# Altium schematic symbol library Aluminum_Electrolytic_Cap.SchLib: 62 symbols (part 1 of 2)
Pins are listed as number, name and electrical type; pins without a type are passive.

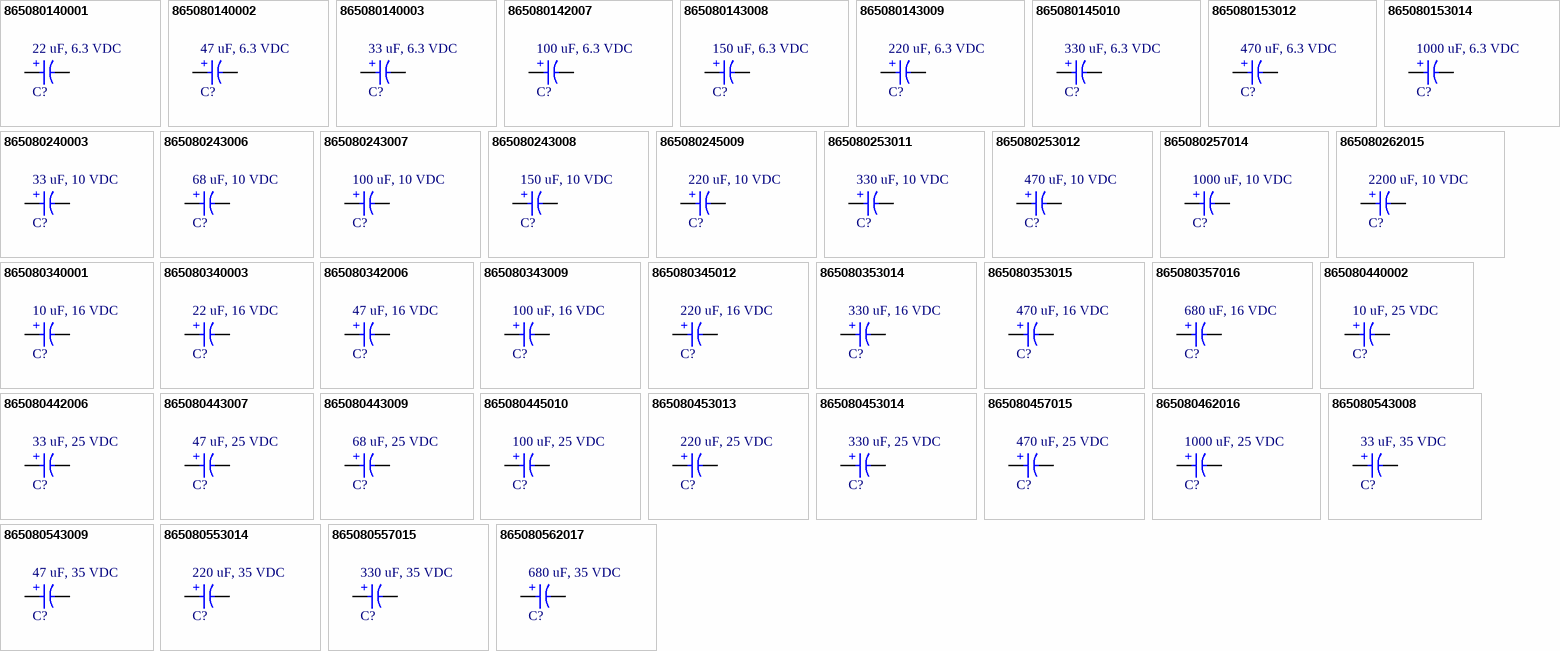
[diagram p0: symbols 865080140001 to 865080562017]

## 865080140001
designator C?, comment 22 uF, 6.3 VDC
V-Chip, D4 x H5.8mm, 22uF, 6.3V; Manufacturer: Wurth Elektronik; Capacitance Tolerance: +/-20%; Dissipation Factor: 24%; Endurance: 2000h; Leakage Current: 3uA; Rated Voltage (DC): 6.3 VDC; Ripple Current: 75mA; Category: Aluminum Electrolytic Capacitors; Mount: Surface Mount; Operating Temperature Max: 105°C; Operating Temperature Min: -55°C; Packaging: Tape and Reel; Height: 5.8mm; Diameter: 4mm; Capacitance: 22 uF; Supplier 1 URL: https://www.mouser.vn/ProductDetail/Wurth-Elektronik/865080140001?qs=0KOYDY2FL2%2FITcChMQdw%252BQ%3D%3D&_gl=1*175azx5*_ga*MzUyMDUxMTAxLjE2ODc3NDI0MDM.*_ga_15W4STQT4T*MTY4OTEwMTM0NC4yLjAuMTY4OTEwMTM0NS4wLjAuMA..*_ga_1KQLCYKRX3*MTY4OTEwMTM0NC4yLjAuMTY4OTEwMTM0NS41OS4wLjA.; Supplier 3 URL: https://www.thegioiic.com/tu-nhom-smd-22uf-6-3v-4x5-8mm-panasonic-eeefp0j220ar; Manufacturer Part Number: N/A; Supplier 2 URL: N/A; Value: 22 uF; Supplier 1: Mouser; Supplier 1 Part Number: 865080140001; Supplier 2: Digi-Key; Supplier 2 Part Number: N/A; Supplier 3: thegioiic; Supplier 3 Part Number: EEEFP0J220AR; ComponentLink1Description: Datasheet; ComponentLink1URL: https://www.we-online.com/redexpert/spec/865080140001?ad; LCSC Part #: N/A
footprint WCAP-ASLI_D4H5.5 (Aluminium Electrolytic V-Chip SMT Capacitors, 4x5.5mm)
pins: 1 P, 2 N
text: +

## 865080140002
designator C?, comment 47 uF, 6.3 VDC
V-Chip, D4 x H5.8mm, 47uF, 6.3V; Manufacturer: Wurth Elektronik; Capacitance Tolerance: +/-20%; Dissipation Factor: 24%; Endurance: 2000h; Leakage Current: 3uA; Rated Voltage (DC): 6.3 VDC; Ripple Current: 86mA; Category: Aluminum Electrolytic Capacitors; Mount: Surface Mount; Operating Temperature Max: 105°C; Operating Temperature Min: -55°C; Packaging: Tape and Reel; Height: 5.5mm; Diameter: 4mm; Capacitance: 47 uF; Supplier 1 URL: https://www.mouser.vn/ProductDetail/Wurth-Elektronik/865080140002?qs=0KOYDY2FL2%252BjKlezJ2boQA%3D%3D; Supplier 3 URL: https://www.thegioiic.com/tu-nhom-smd-47uf-6-3v-5x5-4mm; Manufacturer Part Number: N/A; Supplier 2 URL: N/A; Value: 47 uF; Supplier 1: Mouser; Supplier 1 Part Number: 710-865080140002; Supplier 2: Digi-Key; Supplier 2 Part Number: N/A; Supplier 3: thegioiic; Supplier 3 Part Number: EEEHB0J330AR; ComponentLink1Description: Datasheet; ComponentLink1URL: https://www.we-online.com/redexpert/spec/865080140004?ad; LCSC Part #: N/A
footprint WCAP-ASLI_D4H5.5
pins: 1 P, 2 N
text: +

## 865080140003
designator C?, comment 33 uF, 6.3 VDC
V-Chip, D4 x H5.8mm, 33uF, 6.3V; Manufacturer: Wurth Elektronik; Capacitance Tolerance: +/-20%; Dissipation Factor: 24%; Endurance: 2000h; Leakage Current: 3uA; Rated Voltage (DC): 6.3 VDC; Ripple Current: 82mA; Category: Aluminum Electrolytic Capacitors; Mount: Surface Mount; Operating Temperature Max: 105°C; Operating Temperature Min: -55°C; Packaging: Tape and Reel; Height: 5.5mm; Diameter: 4mm; Capacitance: 33 uF; Manufacturer Part Number: N/A; Supplier 1 URL: N/A; Supplier 2 URL: N/A; Supplier 3 URL: N/A; Value: 33 uF; Supplier 1: Mouser; Supplier 1 Part Number: N/A; Supplier 2: Digi-Key; Supplier 2 Part Number: N/A; Supplier 3: thegioiic; Supplier 3 Part Number: N/A; ComponentLink1Description: Datasheet; ComponentLink1URL: https://www.we-online.com/redexpert/spec/865080140003?ad; LCSC Part #: N/A
footprint WCAP-ASLI_D4H5.5
pins: 1 P, 2 N
text: +

## 865080142007
designator C?, comment 100 uF, 6.3 VDC
V-Chip, D5 x H5.5mm, 100uF, 6.3V; Manufacturer: Wurth Elektronik; Capacitance Tolerance: +/-20%; Dissipation Factor: 24%; Endurance: 2000h; Leakage Current: 6.3uA; Rated Voltage (DC): 6.3 VDC; Ripple Current: 170mA; Category: Aluminum Electrolytic Capacitors; Operating Temperature Max: 105°C; Operating Temperature Min: -55°C; Packaging: Tape and Reel; Height: 5.5mm; Diameter: 5mm; Capacitance: 100 uF; Supplier 1 URL: https://www.mouser.vn/ProductDetail/Wurth-Elektronik/865080142007?qs=0KOYDY2FL2%2Fwso3YmuIP2w%3D%3D; Supplier 3 URL: https://www.thegioiic.com/tu-nhom-smd-100uf-10v-5x5-4mm-panasonic-eee1aa101war; Manufacturer Part Number: N/A; Mount: Surface Mount; Supplier 2 URL: N/A; Value: 100 uF; Supplier 1: Mouser; Supplier 1 Part Number: 710-865080142007; Supplier 2: Digi-Key; Supplier 2 Part Number: N/A; Supplier 3: thegioiic; Supplier 3 Part Number: N/A; ComponentLink1Description: Datasheet; ComponentLink1URL: https://www.we-online.com/redexpert/spec/865080142007?ad; LCSC Part #: N/A
footprint WCAP-ASLI_D5H5.5
pins: 1 P, 2 N
text: +

## 865080143008
designator C?, comment 150 uF, 6.3 VDC
V-Chip, D6.3 x H5.5mm, 150uF, 6.3V; Manufacturer Part Number: 865080143008; Manufacturer: Wurth Elektronik; Capacitance Tolerance: +/-20%; Dissipation Factor: 24%; Endurance: 2000h; Leakage Current: 9.45uA; Rated Voltage (DC): 6.3 VDC; Ripple Current: 235mA; Category: Aluminum Electrolytic Capacitors; Mount: Surface Mount; Operating Temperature Max: 105°C; Operating Temperature Min: -55°C; Packaging: Tape and Reel; Height: 5.5mm; Diameter: 6.3mm; Capacitance: 150 uF; Supplier 1 URL: https://www.mouser.vn/ProductDetail/Wurth-Elektronik/865080143008?qs=0KOYDY2FL29Jqk5itmwpEQ%3D%3D&_gl=1*1gultkx*_ga*MzUyMDUxMTAxLjE2ODc3NDI0MDM.*_ga_15W4STQT4T*MTY4OTE1OTI0Ny4zLjAuMTY4OTE1OTI0OC4wLjAuMA..*_ga_1KQLCYKRX3*MTY4OTE1OTI0Ny4zLjAuMTY4OTE1OTI0OC41OS4wLjA.; Supplier 3 URL: https://www.thegioiic.com/tu-nhom-smd-150uf-6-3v-6-3x5-4mm; Supplier 2 URL: N/A; Value: 150 uF; Supplier 1: Mouser; Supplier 1 Part Number: 710-865080143008; Supplier 2: Digi-Key; Supplier 2 Part Number: N/A; Supplier 3: thegioiic; Supplier 3 Part Number: N/A; ComponentLink1Description: Datasheet; ComponentLink1URL: https://www.we-online.com/redexpert/spec/865080143008?ad; LCSC Part #: N/A
footprint WCAP-ASLI_D6.3H5.5
pins: 1 P, 2 N
text: +

## 865080143009
designator C?, comment 220 uF, 6.3 VDC
V-Chip, D6.3 x H5.5mm, 220uF, 6.3V; Manufacturer Part Number: 865080143009; Manufacturer: Wurth Elektronik; Capacitance Tolerance: +/-20%; Dissipation Factor: 24%; Endurance: 2000h; Leakage Current: 13.86uA; Rated Voltage (DC): 6.3 VDC; Ripple Current: 240mA; Category: Aluminum Electrolytic Capacitors; Mount: Surface Mount; Operating Temperature Max: 105°C; Operating Temperature Min: -55°C; Packaging: Tape and Reel; Height: 5.5mm; Diameter: 6.3mm; Capacitance: 220 uF; Supplier 1 URL: https://www.mouser.vn/ProductDetail/Wurth-Elektronik/865080143009?qs=0KOYDY2FL2%252BJZAQe4u6Luw%3D%3D; Supplier 3 URL: https://www.thegioiic.com/tu-nhom-smd-220uf-6-3v-6-3x5-8mm-panasonic-eeefk0j221p; Supplier 2 URL: N/A; Value: 220 uF; Supplier 1: Mouser; Supplier 1 Part Number: 710-865080143009; Supplier 2: Digi-Key; Supplier 2 Part Number: N/A; Supplier 3: thegioiic; Supplier 3 Part Number: N/A; ComponentLink1Description: Datasheet; ComponentLink1URL: https://www.we-online.com/redexpert/spec/865080143009?ad; LCSC Part #: N/A
footprint WCAP-ASLI_D6.3H5.5
pins: 1 P, 2 N
text: +

## 865080145010
designator C?, comment 330 uF, 6.3 VDC
V-Chip, D6.3 x H7.7mm, 330uF, 6.3V; Manufacturer Part Number: 865080145010; Manufacturer: Wurth Elektronik; Capacitance Tolerance: +/-20%; Dissipation Factor: 24%; Endurance: 2000h; Leakage Current: 20.79uA; Rated Voltage (DC): 6.3 VDC; Ripple Current: 275mA; Category: Aluminum Electrolytic Capacitors; Mount: Surface Mount; Operating Temperature Max: 105°C; Operating Temperature Min: -55°C; Packaging: Tape and Reel; Height: 7.7mm; Diameter: 6.3mm; Capacitance: 330 uF; Supplier 1 URL: https://www.mouser.vn/ProductDetail/Wurth-Elektronik/865080145010?qs=0KOYDY2FL2%252B70aKe3MLQSg%3D%3D; Supplier 3 URL: https://www.thegioiic.com/tu-nhom-smd-330uf-6-3v-6-3x7-7mm; Supplier 2 URL: N/A; Value: 330 uF; Supplier 1: Mouser; Supplier 1 Part Number: 710-865080145010; Supplier 2: Digi-Key; Supplier 2 Part Number: N/A; Supplier 3: thegioiic; Supplier 3 Part Number: N/A; ComponentLink1Description: Datasheet; ComponentLink1URL: https://www.we-online.com/redexpert/spec/865080145010?ad; LCSC Part #: N/A
footprint WCAP-ASLI_D6.3H7.7
pins: 1 P, 2 N
text: +

## 865080153012
designator C?, comment 470 uF, 6.3 VDC
V-Chip, D8 x H10.5mm, 470uF, 6.3V; Manufacturer: Wurth Elektronik; Capacitance Tolerance: +/-20%; Dissipation Factor: 24%; Endurance: 2000h; Leakage Current: 29.61uA; Rated Voltage (DC): 6.3 VDC; Ripple Current: 450mA; Category: Aluminum Electrolytic Capacitors; Mount: Surface Mount; Operating Temperature Max: 105°C; Operating Temperature Min: -55°C; Packaging: Tape and Reel; Height: 10.5mm; Diameter: 8mm; Capacitance: 470 uF; Supplier 1 URL: https://www.mouser.vn/ProductDetail/Wurth-Elektronik/865080153012?qs=0KOYDY2FL2%252Br%2FT8qxMb8%252Bw%3D%3D; Supplier 3 URL: https://www.thegioiic.com/tu-nhom-smd-470uf-6-3v-8x10-5mm; Manufacturer Part Number: N/A; Supplier 2 URL: N/A; Value: 470 uF; Supplier 1: Mouser; Supplier 1 Part Number: 710-865080153012; Supplier 2: Digi-Key; Supplier 2 Part Number: N/A; Supplier 3: thegioiic; Supplier 3 Part Number: N/A; ComponentLink1Description: Datasheet; ComponentLink1URL: https://www.we-online.com/redexpert/spec/865080153012?ad; LCSC Part #: N/A
footprint WCAP-ASLI_D8H10.5
pins: 1 P, 2 N
text: +

## 865080153014
designator C?, comment 1000 uF, 6.3 VDC
V-Chip, D8 x H10.5mm, 1000uF, 6.3V; Manufacturer Part Number: 865080153014; Manufacturer: Wurth Elektronik; Capacitance Tolerance: +/-20%; Dissipation Factor: 24%; Endurance: 2000h; Leakage Current: 63uA; Rated Voltage (DC): 6.3 VDC; Ripple Current: 530mA; Category: Aluminum Electrolytic Capacitors; Mount: Surface Mount; Operating Temperature Max: 105°C; Operating Temperature Min: -55°C; Packaging: Tape and Reel; Height: 10.5mm; Diameter: 8mm; Capacitance: 1000 uF; Supplier 1 URL: N/A; Supplier 2 URL: N/A; Supplier 3 URL: N/A; Value: 1000 uF; Supplier 1: Mouser; Supplier 1 Part Number: N/A; Supplier 2: Digi-Key; Supplier 2 Part Number: N/A; Supplier 3: thegioiic; Supplier 3 Part Number: N/A; ComponentLink1Description: Datasheet; ComponentLink1URL: https://www.we-online.com/redexpert/spec/865080153014?ad; LCSC Part #: N/A
footprint WCAP-ASLI_D8H10.5
pins: 1 P, 2 N
text: +

## 865080240003
designator C?, comment 33 uF, 10 VDC
V-Chip, D4 x H5.5mm, 33uF, 10V; Manufacturer Part Number: 865080240003; Manufacturer: Wurth Elektronik; Capacitance Tolerance: +/-20%; Dissipation Factor: 19%; Endurance: 2000h; Leakage Current: 3.3uA; Rated Voltage (DC): 10 VDC; Ripple Current: 90mA; Category: Aluminum Electrolytic Capacitors; Mount: Surface Mount; Operating Temperature Max: 105°C; Operating Temperature Min: -55°C; Packaging: Tape and Reel; Height: 5.5mm; Diameter: 4mm; Capacitance: 33 uF; Supplier 1 URL: https://www.mouser.com/ProductDetail/Wurth-Elektronik/865080240001?qs=0KOYDY2FL29sDmaMduvttw%3D%3D; Supplier 3 URL: https://www.thegioiic.com/tu-nhom-smd-33uf-10v-4x5-8mm-panasonic-eeefpa330uar; Supplier 2 URL: N/A; Value: 33 uF; Supplier 1: Mouser; Supplier 1 Part Number: 710-865080240001; Supplier 2: Digi-Key; Supplier 2 Part Number: N/A; Supplier 3: thegioiic; Supplier 3 Part Number: N/A; ComponentLink1Description: Datasheet; ComponentLink1URL: https://www.we-online.com/redexpert/spec/865080240003?ad; LCSC Part #: N/A
footprint WCAP-ASLI_D4H5.5
pins: 1 P, 2 N
text: +

## 865080243006
designator C?, comment 68 uF, 10 VDC
V-Chip, D6.3 x H5.5mm, 68uF, 10V; Manufacturer: Wurth Elektronik; Capacitance Tolerance: +/-20%; Dissipation Factor: 19%; Endurance: 2000h; Leakage Current: 6.8uA; Rated Voltage (DC): 10 VDC; Ripple Current: 220mA; Category: Aluminum Electrolytic Capacitors; Mount: Surface Mount; Operating Temperature Max: 105°C; Operating Temperature Min: -55°C; Packaging: Tape and Reel; Height: 5.5mm; Diameter: 6.3mm; Capacitance: 68 uF; Supplier 1 URL: https://www.mouser.com/ProductDetail/Wurth-Elektronik/865080243006?qs=0KOYDY2FL2%252Bzh3fs6MlnCA%3D%3D; Supplier 3 URL: https://www.thegioiic.com/tu-nhom-smd-68uf-10v-5x5-8mm-panasonic-eeefn1a680r; Manufacturer Part Number: N/A; Supplier 2 URL: N/A; Value: 68 uF; Supplier 1: Mouser; Supplier 1 Part Number: 710-865080243006; Supplier 2: Digi-Key; Supplier 2 Part Number: N/A; Supplier 3: thegioiic; Supplier 3 Part Number: N/A; ComponentLink1Description: Datasheet; ComponentLink1URL: https://www.we-online.com/redexpert/spec/865080243006?ad; LCSC Part #: N/A
footprint WCAP-ASLI_D6.3H5.5
pins: 1 P, 2 N
text: +

## 865080243007
designator C?, comment 100 uF, 10 VDC
V-Chip, D6.3 x H5.5mm, 100uF, 10V; Manufacturer: Wurth Elektronik; Capacitance Tolerance: +/-20%; Dissipation Factor: 19%; Endurance: 2000h; Leakage Current: 10uA; Rated Voltage (DC): 10 VDC; Ripple Current: 240mA; Category: Aluminum Electrolytic Capacitors; Mount: Surface Mount; Operating Temperature Max: 105°C; Operating Temperature Min: -55°C; Packaging: Tape and Reel; Height: 5.5mm; Diameter: 6.3mm; Capacitance: 100 uF; Supplier 1 URL: https://www.mouser.com/ProductDetail/Wurth-Elektronik/865080243007?qs=0KOYDY2FL29uO9tShod4jA%3D%3D; Supplier 3 URL: https://www.thegioiic.com/tu-nhom-smd-100uf-10v-6-3x5-4mm; Manufacturer Part Number: N/A; Supplier 2 URL: N/A; Value: 100 uF; Supplier 1: Mouser; Supplier 1 Part Number: 710-865080243007; Supplier 2: Digi-Key; Supplier 2 Part Number: N/A; Supplier 3: thegioiic; Supplier 3 Part Number: N/A; ComponentLink1Description: Datasheet; ComponentLink1URL: https://www.we-online.com/redexpert/spec/865080243007?ad; LCSC Part #: N/A
footprint WCAP-ASLI_D6.3H5.5
pins: 1 P, 2 N
text: +

## 865080243008
designator C?, comment 150 uF, 10 VDC
V-Chip, D6.3 x H5.5mm, 150uF, 10V; Manufacturer: Wurth Elektronik; Capacitance Tolerance: +/-20%; Dissipation Factor: 19%; Endurance: 2000h; Leakage Current: 15uA; Rated Voltage (DC): 10 VDC; Ripple Current: 250mA; Category: Aluminum Electrolytic Capacitors; Mount: Surface Mount; Operating Temperature Max: 105°C; Operating Temperature Min: -55°C; Packaging: Tape and Reel; Height: 5.5mm; Diameter: 6.3mm; Capacitance: 150 uF; Supplier 1 URL: https://www.mouser.com/ProductDetail/Wurth-Elektronik/865080243008?qs=0KOYDY2FL2%2FbvQsr8MK00A%3D%3D; Supplier 3 URL: https://www.thegioiic.com/tu-nhom-smd-150uf-10v-6-3x5-8mm-panasonic-eeefk1a151ap; Manufacturer Part Number: N/A; Supplier 2 URL: N/A; Value: 150 uF; Supplier 1: Mouser; Supplier 1 Part Number: 710-865080243008; Supplier 2: Digi-Key; Supplier 2 Part Number: N/A; Supplier 3: thegioiic; Supplier 3 Part Number: N/A; ComponentLink1Description: Datasheet; ComponentLink1URL: https://www.we-online.com/redexpert/spec/865080243008?ad; LCSC Part #: N/A
footprint WCAP-ASLI_D6.3H5.5
pins: 1 P, 2 N
text: +

## 865080245009
designator C?, comment 220 uF, 10 VDC
V-Chip, D6.3 x H7.7mm, 220uF, 10V; Manufacturer: Wurth Elektronik; Capacitance Tolerance: +/-20%; Dissipation Factor: 19%; Endurance: 2000h; Leakage Current: 22uA; Rated Voltage (DC): 10 VDC; Ripple Current: 270mA; Category: Aluminum Electrolytic Capacitors; Mount: Surface Mount; Operating Temperature Max: 105°C; Operating Temperature Min: -55°C; Packaging: Tape and Reel; Height: 7.7mm; Diameter: 6.3mm; Capacitance: 220 uF; Supplier 1 URL: https://www.mouser.com/ProductDetail/Wurth-Elektronik/865080245009?qs=0KOYDY2FL29txZ55US1VdQ%3D%3D; Supplier 3 URL: https://www.thegioiic.com/tu-nhom-smd-220uf-10v-6-3x7-7mm; Manufacturer Part Number: N/A; Supplier 2 URL: N/A; Value: 220 uF; Supplier 1: Mouser; Supplier 1 Part Number: 710-865080245009; Supplier 2: Digi-Key; Supplier 2 Part Number: N/A; Supplier 3: thegioiic; Supplier 3 Part Number: N/A; ComponentLink1Description: Datasheet; ComponentLink1URL: https://www.we-online.com/redexpert/spec/865080245009?ad; LCSC Part #: N/A
footprint WCAP-ASLI_D6.3H7.7
pins: 1 P, 2 N
text: +

## 865080253011
designator C?, comment 330 uF, 10 VDC
V-Chip, D8 x H10.5mm, 330uF, 10V; Manufacturer: Wurth Elektronik; Capacitance Tolerance: +/-20%; Dissipation Factor: 19%; Endurance: 2000h; Leakage Current: 33uA; Rated Voltage (DC): 10 VDC; Ripple Current: 500mA; Category: Aluminum Electrolytic Capacitors; Mount: Surface Mount; Operating Temperature Max: 105°C; Operating Temperature Min: -55°C; Packaging: Tape and Reel; Height: 10.5mm; Diameter: 8mm; Capacitance: 330 uF; Supplier 1 URL: https://www.mouser.com/ProductDetail/Wurth-Elektronik/865080253011?qs=0KOYDY2FL29GvaLwu3QXCg%3D%3D; Supplier 3 URL: https://www.thegioiic.com/tu-nhom-smd-330uf-10v-8x10-5mm; Manufacturer Part Number: N/A; Supplier 2 URL: N/A; Value: 330 uF; Supplier 1: Mouser; Supplier 1 Part Number: 710-865080253011; Supplier 2: Digi-Key; Supplier 2 Part Number: N/A; Supplier 3: thegioiic; Supplier 3 Part Number: N/A; ComponentLink1Description: Datasheet; ComponentLink1URL: https://www.we-online.com/redexpert/spec/865080253011?ad; LCSC Part #: N/A
footprint WCAP-ASLI_D8H10.5
pins: 1 P, 2 N
text: +

## 865080253012
designator C?, comment 470 uF, 10 VDC
V-Chip, D8 x H10.5mm, 470uF, 10V; Manufacturer: Wurth Elektronik; Capacitance Tolerance: +/-20%; Dissipation Factor: 19%; Endurance: 2000h; Leakage Current: 47uA; Rated Voltage (DC): 10 VDC; Ripple Current: 550mA; Category: Aluminum Electrolytic Capacitors; Mount: Surface Mount; Operating Temperature Max: 105°C; Operating Temperature Min: -55°C; Packaging: Tape and Reel; Height: 10.5mm; Diameter: 8mm; Capacitance: 470 uF; Supplier 1 URL: https://www.mouser.com/ProductDetail/Wurth-Elektronik/865080253012?qs=0KOYDY2FL2%252BZBBu4g0n25w%3D%3D; Supplier 3 URL: https://www.thegioiic.com/tu-nhom-smd-470uf-10v-8x10-5mm; Manufacturer Part Number: N/A; Supplier 2 URL: N/A; Value: 470 uF; Supplier 1: Mouser; Supplier 1 Part Number: 710-865080253012; Supplier 2: Digi-Key; Supplier 2 Part Number: N/A; Supplier 3: thegioiic; Supplier 3 Part Number: N/A; ComponentLink1Description: Datasheet; ComponentLink1URL: https://www.we-online.com/redexpert/spec/865080253012?ad; LCSC Part #: N/A
footprint WCAP-ASLI_D8H10.5
pins: 1 P, 2 N
text: +

## 865080257014
designator C?, comment 1000 uF, 10 VDC
V-Chip, D10 x H10.5mm, 1000uF, 10V; Manufacturer: Wurth Elektronik; Capacitance Tolerance: +/-20%; Dissipation Factor: 19%; Endurance: 2000h; Leakage Current: 100uA; Rated Voltage (DC): 10 VDC; Ripple Current: 740mA; Category: Aluminum Electrolytic Capacitors; Mount: Surface Mount; Operating Temperature Max: 105°C; Operating Temperature Min: -55°C; Packaging: Tape and Reel; Height: 10.5mm; Diameter: 10mm; Capacitance: 1000 uF; Supplier 1 URL: https://www.mouser.com/ProductDetail/Wurth-Elektronik/865080257014?qs=0KOYDY2FL2%2FeDzqqpY4biQ%3D%3D; Supplier 3 URL: https://www.thegioiic.com/tu-nhom-smd-1000uf-10v-10x10-5mm; Manufacturer Part Number: N/A; Supplier 2 URL: N/A; Value: 1000 uF; Supplier 1: Mouser; Supplier 1 Part Number: 710-865080257014; Supplier 2: Digi-Key; Supplier 2 Part Number: N/A; Supplier 3: thegioiic; Supplier 3 Part Number: N/A; ComponentLink1Description: Datasheet; ComponentLink1URL: https://www.we-online.com/redexpert/spec/865080257014?ad; LCSC Part #: N/A
footprint WCAP-ASLI_D10H10.5
pins: 1 P, 2 N
text: +

## 865080262015
designator C?, comment 2200 uF, 10 VDC
V-Chip, D12.5 x H14mm, 2200uF, 10V; Manufacturer: Wurth Elektronik; Capacitance Tolerance: +/-20%; Dissipation Factor: 21%; Endurance: 5000h; Leakage Current: 220uA; Rated Voltage (DC): 10 VDC; Ripple Current: 1100mA; Category: Aluminum Electrolytic Capacitors; Mount: Surface Mount; Operating Temperature Max: 105°C; Operating Temperature Min: -55°C; Packaging: Tape and Reel; Height: 14mm; Diameter: 12.5mm; Capacitance: 2200 uF; Supplier 1 URL: https://www.mouser.com/ProductDetail/Wurth-Elektronik/865080262015?qs=0KOYDY2FL2%2Ffe5w2MssUoQ%3D%3D; Supplier 3 URL: https://www.thegioiic.com/tu-nhom-smd-2200uf-10v-12-5x13-5mm; Manufacturer Part Number: N/A; Supplier 2 URL: N/A; Value: 2200 uF; Supplier 1: Mouser; Supplier 1 Part Number: 710-865080262015; Supplier 2: Digi-Key; Supplier 2 Part Number: N/A; Supplier 3: thegioiic; Supplier 3 Part Number: N/A; ComponentLink1Description: Datasheet; ComponentLink1URL: https://www.we-online.com/redexpert/spec/865080262015?ad; LCSC Part #: N/A
footprint WCAP-ASLI_D12.5H14
pins: 1 P, 2 N
text: +

## 865080340001
designator C?, comment 10 uF, 16 VDC
V-Chip, D4 x H5.5mm, 10uF, 16V; Manufacturer: Wurth Elektronik; Capacitance Tolerance: +/-20%; Dissipation Factor: 16%; Endurance: 2000h; Leakage Current: 3uA; Rated Voltage (DC): 16 VDC; Ripple Current: 80mA; Category: Aluminum Electrolytic Capacitors; Mount: Surface Mount; Operating Temperature Max: 105°C; Operating Temperature Min: -55°C; Packaging: Tape and Reel; Height: 5.5mm; Diameter: 4mm; Capacitance: 10 uF; Supplier 1 URL: https://www.mouser.com/ProductDetail/Wurth-Elektronik/865080340001?qs=0KOYDY2FL2%252BaqRFD837lAw%3D%3D; Supplier 3 URL: https://www.thegioiic.com/tu-nhom-smd-10uf-16v-4x5-4mm; Manufacturer Part Number: N/A; Supplier 2 URL: N/A; Value: 10 uF; Supplier 1: Mouser; Supplier 1 Part Number: 710-865080340001; Supplier 2: Digi-Key; Supplier 2 Part Number: N/A; Supplier 3: thegioiic; Supplier 3 Part Number: N/A; ComponentLink1Description: Datasheet; ComponentLink1URL: https://www.we-online.com/redexpert/spec/865080340001?ad; LCSC Part #: N/A
footprint WCAP-ASLI_D4H5.5
pins: 1 P, 2 N
text: +

## 865080340003
designator C?, comment 22 uF, 16 VDC
V-Chip, D4 x H5.5mm, 22uF, 16V; Manufacturer: Wurth Elektronik; Capacitance Tolerance: +/-20%; Dissipation Factor: 16%; Endurance: 2000h; Leakage Current: 3.52uA; Rated Voltage (DC): 16 VDC; Ripple Current: 90mA; Category: Aluminum Electrolytic Capacitors; Mount: Surface Mount; Operating Temperature Max: 105°C; Operating Temperature Min: -55°C; Packaging: Tape and Reel; Height: 5.5mm; Diameter: 4mm; Capacitance: 22 uF; Supplier 1 URL: https://www.mouser.com/ProductDetail/Wurth-Elektronik/865080340003?qs=0KOYDY2FL2%252BowmC4S50IuQ%3D%3D; Supplier 3 URL: https://www.thegioiic.com/tu-nhom-smd-22uf-16v-4x5-4mm; Manufacturer Part Number: N/A; Supplier 2 URL: N/A; Value: 22 uF; Supplier 1: Mouser; Supplier 1 Part Number: 710-865080340003; Supplier 2: Digi-Key; Supplier 2 Part Number: N/A; Supplier 3: thegioiic; Supplier 3 Part Number: N/A; ComponentLink1Description: Datasheet; ComponentLink1URL: https://www.we-online.com/redexpert/spec/865080340003?ad; LCSC Part #: N/A
footprint WCAP-ASLI_D4H5.5
pins: 1 P, 2 N
text: +

## 865080342006
designator C?, comment 47 uF, 16 VDC
V-Chip, D5 x H5.5mm, 47uF, 16V; Manufacturer: Wurth Elektronik; Capacitance Tolerance: +/-20%; Dissipation Factor: 16%; Endurance: 2000h; Leakage Current: 7.52uA; Rated Voltage (DC): 16 VDC; Ripple Current: 195mA; Category: Aluminum Electrolytic Capacitors; Mount: Surface Mount; Operating Temperature Max: 105°C; Operating Temperature Min: -55°C; Packaging: Tape and Reel; Height: 5.5mm; Diameter: 5mm; Capacitance: 47 uF; Supplier 1 URL: https://www.mouser.com/ProductDetail/Wurth-Elektronik/865080262015?qs=0KOYDY2FL2%2Ffe5w2MssUoQ%3D%3D; Supplier 3 URL: https://www.thegioiic.com/tu-nhom-smd-47uf-16v-5x5-4mm; Manufacturer Part Number: N/A; Supplier 2 URL: N/A; Value: 47 uF; Supplier 1: Mouser; Supplier 1 Part Number: 710-865080262015; Supplier 2: Digi-Key; Supplier 2 Part Number: N/A; Supplier 3: thegioiic; Supplier 3 Part Number: N/A; ComponentLink1Description: Datasheet; ComponentLink1URL: https://www.we-online.com/redexpert/spec/865080342006?ad; LCSC Part #: N/A
footprint WCAP-ASLI_D5H5.5
pins: 1 P, 2 N
text: +

## 865080343009
designator C?, comment 100 uF, 16 VDC
V-Chip, D6.3 x H5.5mm, 100uF, 16V; Manufacturer: Wurth Elektronik; Capacitance Tolerance: +/-20%; Dissipation Factor: 16%; Endurance: 2000h; Leakage Current: 16uA; Rated Voltage (DC): 16 VDC; Ripple Current: 255mA; Category: Aluminum Electrolytic Capacitors; Mount: Surface Mount; Operating Temperature Max: 105°C; Operating Temperature Min: -55°C; Packaging: Tape and Reel; Height: 5.5mm; Diameter: 6.3mm; Capacitance: 100 uF; Supplier 1 URL: https://www.mouser.com/ProductDetail/Wurth-Elektronik/865080343009?qs=0KOYDY2FL28Gid9q%2FqirTQ%3D%3D; Supplier 3 URL: https://www.thegioiic.com/tu-nhom-smd-100uf-16v-6-3x5-4mm; Manufacturer Part Number: N/A; Supplier 2 URL: N/A; Value: 100 uF; Supplier 1: Mouser; Supplier 1 Part Number: 710-865080343009; Supplier 2: Digi-Key; Supplier 2 Part Number: N/A; Supplier 3: thegioiic; Supplier 3 Part Number: N/A; ComponentLink1Description: Datasheet; ComponentLink1URL: https://www.we-online.com/redexpert/spec/865080343009?ad; LCSC Part #: N/A
footprint WCAP-ASLI_D6.3H5.5
pins: 1 P, 2 N
text: +

## 865080345012
designator C?, comment 220 uF, 16 VDC
V-Chip, D6.3 x H7.7mm, 220uF, 16V; Manufacturer: Wurth Elektronik; Capacitance Tolerance: +/-20%; Dissipation Factor: 16%; Endurance: 2000h; Leakage Current: 35.2uA; Rated Voltage (DC): 16 VDC; Ripple Current: 275mA; Category: Aluminum Electrolytic Capacitors; Mount: Surface Mount; Operating Temperature Max: 105°C; Operating Temperature Min: -55°C; Packaging: Tape and Reel; Height: 7.7mm; Diameter: 6.3mm; Capacitance: 220 uF; Supplier 1 URL: https://www.mouser.com/ProductDetail/Wurth-Elektronik/865080345012?qs=0KOYDY2FL28fdpLe2qFZOQ%3D%3D; Supplier 3 URL: https://www.thegioiic.com/tu-nhom-smd-220uf-16v-6-3x7-7mm; Manufacturer Part Number: N/A; Supplier 2 URL: N/A; Value: 220 uF; Supplier 1: Mouser; Supplier 1 Part Number: 710-865080345012; Supplier 2: Digi-Key; Supplier 2 Part Number: N/A; Supplier 3: thegioiic; Supplier 3 Part Number: N/A; ComponentLink1Description: Datasheet; ComponentLink1URL: https://www.we-online.com/redexpert/spec/865080345012?ad; LCSC Part #: N/A
footprint WCAP-ASLI_D6.3H7.7
pins: 1 P, 2 N
text: +

## 865080353014
designator C?, comment 330 uF, 16 VDC
V-Chip, D8 x H10.5mm, 330uF, 16V; Manufacturer: Wurth Elektronik; Capacitance Tolerance: +/-20%; Dissipation Factor: 16%; Endurance: 2000h; Leakage Current: 52.8uA; Rated Voltage (DC): 16 VDC; Ripple Current: 550mA; Category: Aluminum Electrolytic Capacitors; Mount: Surface Mount; Operating Temperature Max: 105°C; Operating Temperature Min: -55°C; Packaging: Tape and Reel; Height: 10.5mm; Diameter: 8mm; Capacitance: 330 uF; Supplier 1 URL: https://www.mouser.com/ProductDetail/Wurth-Elektronik/865080353014?qs=0KOYDY2FL2%252BkVHVARzAhQw%3D%3D; Supplier 3 URL: https://www.thegioiic.com/tu-nhom-smd-330uf-16v-8x10-5mm; Manufacturer Part Number: N/A; Supplier 2 URL: N/A; Value: 330 uF; Supplier 1: Mouser; Supplier 1 Part Number: 710-865080353014; Supplier 2: Digi-Key; Supplier 2 Part Number: N/A; Supplier 3: thegioiic; Supplier 3 Part Number: N/A; ComponentLink1Description: Datasheet; ComponentLink1URL: https://www.we-online.com/redexpert/spec/865080353014?ad; LCSC Part #: N/A
footprint WCAP-ASLI_D8H10.5
pins: 1 P, 2 N
text: +

## 865080353015
designator C?, comment 470 uF, 16 VDC
V-Chip, D8 x H10.5mm, 470uF, 16V; Manufacturer: Wurth Elektronik; Capacitance Tolerance: +/-20%; Dissipation Factor: 16%; Endurance: 2000h; Leakage Current: 75.2uA; Rated Voltage (DC): 16 VDC; Ripple Current: 590mA; Category: Aluminum Electrolytic Capacitors; Mount: Surface Mount; Operating Temperature Max: 105°C; Operating Temperature Min: -55°C; Packaging: Tape and Reel; Height: 10.5mm; Diameter: 8mm; Capacitance: 470 uF; Supplier 1 URL: https://www.mouser.com/ProductDetail/Wurth-Elektronik/865080353015?qs=0KOYDY2FL28FboDoWMk70w%3D%3D; Supplier 3 URL: https://www.thegioiic.com/tu-nhom-smd-470uf-16v-8x10-5mm; Manufacturer Part Number: N/A; Supplier 2 URL: N/A; Value: 470 uF; Supplier 1: Mouser; Supplier 1 Part Number: 710-865080353015; Supplier 2: Digi-Key; Supplier 2 Part Number: N/A; Supplier 3: thegioiic; Supplier 3 Part Number: N/A; ComponentLink1Description: Datasheet; ComponentLink1URL: https://www.we-online.com/redexpert/spec/865080353015?ad; LCSC Part #: N/A
footprint WCAP-ASLI_D8H10.5
pins: 1 P, 2 N
text: +

## 865080357016
designator C?, comment 680 uF, 16 VDC
V-Chip, D10 x H10.5mm, 680uF, 16V; Manufacturer: Wurth Elektronik; Capacitance Tolerance: +/-20%; Dissipation Factor: 16%; Endurance: 2000h; Leakage Current: 108.8uA; Rated Voltage (DC): 16 VDC; Ripple Current: 720mA; Category: Aluminum Electrolytic Capacitors; Mount: Surface Mount; Operating Temperature Max: 105°C; Operating Temperature Min: -55°C; Packaging: Tape and Reel; Height: 10.5mm; Diameter: 10mm; Capacitance: 680 uF; Supplier 1 URL: 710-865080357016; Supplier 3 URL: https://www.thegioiic.com/tu-nhom-smd-680uf-16v-10x10-5mm; Manufacturer Part Number: N/A; Supplier 2 URL: N/A; Value: 680 uF; Supplier 1: Mouser; Supplier 1 Part Number: 710-865080357016; Supplier 2: Digi-Key; Supplier 2 Part Number: N/A; Supplier 3: thegioiic; Supplier 3 Part Number: N/A; ComponentLink1Description: Datasheet; ComponentLink1URL: https://www.we-online.com/redexpert/spec/865080357016?ad; LCSC Part #: N/A
footprint WCAP-ASLI_D10H10.5
pins: 1 P, 2 N
text: +

## 865080440002
designator C?, comment 10 uF, 25 VDC
V-Chip, D4 x H5.5mm, 10uF, 25V; Manufacturer: Wurth Elektronik; Capacitance Tolerance: +/-20%; Dissipation Factor: 14%; Endurance: 2000h; Leakage Current: 3uA; Rated Voltage (DC): 25 VDC; Ripple Current: 85mA; Category: Aluminum Electrolytic Capacitors; Mount: Surface Mount; Operating Temperature Max: 105°C; Operating Temperature Min: -55°C; Packaging: Tape and Reel; Height: 5.5mm; Diameter: 4mm; Capacitance: 10 uF; Supplier 1 URL: https://www.mouser.com/ProductDetail/Wurth-Elektronik/865080440002?qs=0KOYDY2FL2%2FXvxJ7qSnXzw%3D%3D; Supplier 3 URL: https://www.thegioiic.com/tu-nhom-smd-10uf-25v-4x5-4mm; Manufacturer Part Number: N/A; Supplier 2 URL: N/A; Value: 10 uF; Supplier 1: Mouser; Supplier 1 Part Number: 710-865080440002; Supplier 2: Digi-Key; Supplier 2 Part Number: N/A; Supplier 3: thegioiic; Supplier 3 Part Number: N/A; ComponentLink1Description: Datasheet; ComponentLink1URL: https://www.we-online.com/redexpert/spec/865080440002?ad; LCSC Part #: N/A
footprint WCAP-ASLI_D4H5.5
pins: 1 P, 2 N
text: +

## 865080442006
designator C?, comment 33 uF, 25 VDC
V-Chip, D5 x H5.5mm, 33uF, 25V; Manufacturer: Wurth Elektronik; Capacitance Tolerance: +/-20%; Dissipation Factor: 14%; Endurance: 2000h; Leakage Current: 8.25uA; Rated Voltage (DC): 25 VDC; Ripple Current: 160mA; Category: Aluminum Electrolytic Capacitors; Mount: Surface Mount; Operating Temperature Max: 105°C; Operating Temperature Min: -55°C; Packaging: Tape and Reel; Height: 5.5mm; Diameter: 5mm; Capacitance: 33 uF; Supplier 1 URL: https://www.mouser.com/ProductDetail/Wurth-Elektronik/865080442006?qs=0KOYDY2FL28yYWna6YwhXg%3D%3D; Supplier 3 URL: https://www.thegioiic.com/tu-nhom-smd-33uf-25v-5x5-4mm; Manufacturer Part Number: N/A; Supplier 2 URL: N/A; Value: 33 uF; Supplier 1: Mouser; Supplier 1 Part Number: 710-865080442006; Supplier 2: Digi-Key; Supplier 2 Part Number: N/A; Supplier 3: thegioiic; Supplier 3 Part Number: N/A; ComponentLink1Description: Datasheet; ComponentLink1URL: https://www.we-online.com/redexpert/spec/865080442006?ad; LCSC Part #: N/A
footprint WCAP-ASLI_D5H5.5
pins: 1 P, 2 N
text: +

## 865080443007
designator C?, comment 47 uF, 25 VDC
V-Chip, D6.3 x H5.5mm, 47uF, 25V; Manufacturer: Wurth Elektronik; Capacitance Tolerance: +/-20%; Dissipation Factor: 14%; Endurance: 2000h; Leakage Current: 11.75uA; Rated Voltage (DC): 25 VDC; Ripple Current: 220mA; Category: Aluminum Electrolytic Capacitors; Mount: Surface Mount; Operating Temperature Max: 105°C; Operating Temperature Min: -55°C; Packaging: Tape and Reel; Height: 5.5mm; Diameter: 6.3mm; Capacitance: 47 uF; Supplier 1 URL: https://www.mouser.com/ProductDetail/Wurth-Elektronik/865080443007?qs=0KOYDY2FL29hh2FHnT7VZA%3D%3D; Supplier 3 URL: https://www.thegioiic.com/tu-nhom-smd-47uf-25v-6-3x5-4mm; Manufacturer Part Number: N/A; Supplier 2 URL: N/A; Value: 47 uF; Supplier 1: Mouser; Supplier 1 Part Number: 710-865080443007; Supplier 2: Digi-Key; Supplier 2 Part Number: N/A; Supplier 3: thegioiic; Supplier 3 Part Number: N/A; ComponentLink1Description: Datasheet; ComponentLink1URL: https://www.we-online.com/redexpert/spec/865080443007?ad; LCSC Part #: N/A
footprint WCAP-ASLI_D6.3H5.5
pins: 1 P, 2 N
text: +

## 865080443009
designator C?, comment 68 uF, 25 VDC
V-Chip, D6.3 x H5.5mm, 68uF, 25V; Manufacturer: Wurth Elektronik; Capacitance Tolerance: +/-20%; Dissipation Factor: 14%; Endurance: 2000h; Leakage Current: 17uA; Rated Voltage (DC): 25 VDC; Ripple Current: 240mA; Category: Aluminum Electrolytic Capacitors; Mount: Surface Mount; Operating Temperature Max: 105°C; Operating Temperature Min: -55°C; Packaging: Tape and Reel; Height: 5.5mm; Diameter: 6.3mm; Capacitance: 68 uF; Supplier 1 URL: https://www.mouser.com/ProductDetail/Wurth-Elektronik/865080443009?qs=0KOYDY2FL2%2FlEx5YcI%2Fcag%3D%3D; Supplier 3 URL: https://www.thegioiic.com/tu-nhom-smd-68uf-25v-6-3x5-4mm; Manufacturer Part Number: N/A; Supplier 2 URL: N/A; Value: 68 uF; Supplier 1: Mouser; Supplier 1 Part Number: 710-865080443009; Supplier 2: Digi-Key; Supplier 2 Part Number: N/A; Supplier 3: thegioiic; Supplier 3 Part Number: N/A; ComponentLink1Description: Datasheet; ComponentLink1URL: https://www.we-online.com/redexpert/spec/865080443009?ad; LCSC Part #: N/A
footprint WCAP-ASLI_D6.3H5.5
pins: 1 P, 2 N
text: +

## 865080445010
designator C?, comment 100 uF, 25 VDC
V-Chip, D6.3 x H7.7mm, 100uF, 25V; Manufacturer: Wurth Elektronik; Capacitance Tolerance: +/-20%; Dissipation Factor: 14%; Endurance: 2000h; Leakage Current: 25uA; Rated Voltage (DC): 25 VDC; Ripple Current: 290mA; Category: Aluminum Electrolytic Capacitors; Mount: Surface Mount; Operating Temperature Max: 105°C; Operating Temperature Min: -55°C; Packaging: Tape and Reel; Height: 7.7mm; Diameter: 6.3mm; Capacitance: 100 uF; Supplier 3 URL: https://www.thegioiic.com/tu-nhom-smd-100uf-25v-6-3x7-7mm; Supplier 1 URL: https://www.mouser.com/ProductDetail/Wurth-Elektronik/865080445010?qs=0KOYDY2FL29KjsP7WHszFQ%3D%3D; Manufacturer Part Number: N/A; Supplier 2 URL: N/A; Value: 100 uF; Supplier 1: Mouser; Supplier 1 Part Number: 710-865080445010; Supplier 2: Digi-Key; Supplier 2 Part Number: N/A; Supplier 3: thegioiic; Supplier 3 Part Number: N/A; ComponentLink1Description: Datasheet; ComponentLink1URL: https://www.we-online.com/redexpert/spec/865080445010?ad; LCSC Part #: C165974
footprint WCAP-ASLI_D6.3H7.7
pins: 1 P, 2 N
text: +

## 865080453013
designator C?, comment 220 uF, 25 VDC
V-Chip, D8 x H10.5mm, 220uF, 25V; Manufacturer: Wurth Elektronik; Capacitance Tolerance: +/-20%; Dissipation Factor: 14%; Endurance: 2000h; Leakage Current: 55uA; Rated Voltage (DC): 25 VDC; Ripple Current: 530mA; Category: Aluminum Electrolytic Capacitors; Mount: Surface Mount; Operating Temperature Max: 105°C; Operating Temperature Min: -55°C; Packaging: Tape and Reel; Height: 10.5mm; Diameter: 8mm; Capacitance: 220 uF; Supplier 1 URL: https://www.mouser.com/ProductDetail/Wurth-Elektronik/865080453013?qs=0KOYDY2FL283%2FWj%2FzGH1oQ%3D%3D; Supplier 3 URL: https://www.thegioiic.com/tu-nhom-smd-220uf-25v-8x10-5mm; Manufacturer Part Number: N/A; Supplier 2 URL: N/A; Value: 220 uF; Supplier 1: Mouser; Supplier 1 Part Number: 710-865080453013; Supplier 2: Digi-Key; Supplier 2 Part Number: N/A; Supplier 3: thegioiic; Supplier 3 Part Number: N/A; ComponentLink1Description: Datasheet; ComponentLink1URL: https://www.we-online.com/redexpert/spec/865080453013?ad; LCSC Part #: N/A
footprint WCAP-ASLI_D8H10.5
pins: 1 P, 2 N
text: +

## 865080453014
designator C?, comment 330 uF, 25 VDC
V-Chip, D8 x H10.5mm, 330uF, 25V; Manufacturer: Wurth Elektronik; Capacitance Tolerance: +/-20%; Dissipation Factor: 14%; Endurance: 2000h; Leakage Current: 82.5uA; Rated Voltage (DC): 25 VDC; Ripple Current: 570mA; Category: Aluminum Electrolytic Capacitors; Mount: Surface Mount; Operating Temperature Max: 105°C; Operating Temperature Min: -55°C; Packaging: Tape and Reel; Height: 10.5mm; Diameter: 8mm; Capacitance: 330 uF; Supplier 1 URL: https://www.mouser.com/ProductDetail/Wurth-Elektronik/865080453014?qs=0KOYDY2FL29GWGCbmbT%252B0w%3D%3D; Supplier 3 URL: https://www.thegioiic.com/tu-nhom-smd-330uf-25v-8-5x10mm; Manufacturer Part Number: N/A; Supplier 2 URL: N/A; Value: 330 uF; Supplier 1: Mouser; Supplier 1 Part Number: 710-865080453014; Supplier 2: Digi-Key; Supplier 2 Part Number: N/A; Supplier 3: thegioiic; Supplier 3 Part Number: N/A; ComponentLink1Description: Datasheet; ComponentLink1URL: https://www.we-online.com/redexpert/spec/865080453014?ad; LCSC Part #: N/A
footprint WCAP-ASLI_D8H10.5
pins: 1 P, 2 N
text: +

## 865080457015
designator C?, comment 470 uF, 25 VDC
V-Chip, D10 x H10.5mm, 470uF, 25V; Manufacturer: Wurth Elektronik; Capacitance Tolerance: +/-20%; Dissipation Factor: 14%; Endurance: 2000h; Leakage Current: 117.5uA; Rated Voltage (DC): 25 VDC; Ripple Current: 650mA; Category: Aluminum Electrolytic Capacitors; Mount: Surface Mount; Operating Temperature Max: 105°C; Operating Temperature Min: -55°C; Packaging: Tape and Reel; Height: 10.5mm; Diameter: 10mm; Capacitance: 470 uF; Supplier 3 URL: https://www.thegioiic.com/tu-nhom-smd-470uf-25v-10x10-5mm; Supplier 1 URL: https://www.mouser.com/ProductDetail/Wurth-Elektronik/865080457015?qs=0KOYDY2FL2%252BEKTJa1jxjAQ%3D%3D; Manufacturer Part Number: N/A; Supplier 2 URL: N/A; Value: 470 uF; Supplier 1: Mouser; Supplier 1 Part Number: 710-865080457015; Supplier 2: Digi-Key; Supplier 2 Part Number: N/A; Supplier 3: thegioiic; Supplier 3 Part Number: N/A; ComponentLink1Description: Datasheet; ComponentLink1URL: https://www.we-online.com/redexpert/spec/865080457015?ad; LCSC Part #: N/A
footprint WCAP-ASLI_D10H10.5
pins: 1 P, 2 N
text: +

## 865080462016
designator C?, comment 1000 uF, 25 VDC
V-Chip, D12.5 x H14mm, 1000uF, 25V; Manufacturer: Wurth Elektronik; Capacitance Tolerance: +/-20%; Dissipation Factor: 14%; Endurance: 5000h; Leakage Current: 250uA; Rated Voltage (DC): 25 VDC; Ripple Current: 1100mA; Category: Aluminum Electrolytic Capacitors; Mount: Surface Mount; Operating Temperature Max: 105°C; Operating Temperature Min: -55°C; Packaging: Tape and Reel; Height: 14mm; Diameter: 12.5mm; Capacitance: 1000 uF; Supplier 1 URL: https://www.mouser.com/ProductDetail/Wurth-Elektronik/865080462016?qs=0KOYDY2FL2%252BphFKARPaJJA%3D%3D; Supplier 3 URL: https://www.thegioiic.com/tu-nhom-smd-1000uf-25v-12-5x13-5mm; Manufacturer Part Number: N/A; Supplier 2 URL: N/A; Value: 1000 uF; Supplier 1: Mouser; Supplier 1 Part Number: 710-865080462016; Supplier 2: Digi-Key; Supplier 2 Part Number: N/A; Supplier 3: thegioiic; Supplier 3 Part Number: N/A; ComponentLink1Description: Datasheet; ComponentLink1URL: https://www.we-online.com/redexpert/spec/865080462016?ad; LCSC Part #: N/A
footprint WCAP-ASLI_D12.5H14
pins: 1 P, 2 N
text: +

## 865080543008
designator C?, comment 33 uF, 35 VDC
V-Chip, D6.3 x H5.5mm, 33uF, 35V; Manufacturer: Wurth Elektronik; Capacitance Tolerance: +/-20%; Dissipation Factor: 14%; Endurance: 2000h; Leakage Current: 11.55uA; Rated Voltage (DC): 35 VDC; Ripple Current: 230mA; Category: Aluminum Electrolytic Capacitors; Mount: Surface Mount; Operating Temperature Max: 105°C; Operating Temperature Min: -55°C; Packaging: Tape and Reel; Height: 5.5mm; Diameter: 6.3mm; Capacitance: 33 uF; Supplier 1 URL: https://www.mouser.com/ProductDetail/Wurth-Elektronik/865080543008?qs=0KOYDY2FL2%2F%2FezMgpJJivQ%3D%3D; Supplier 3 URL: https://www.thegioiic.com/tu-nhom-smd-33uf-35v-6-3x5-4mm; Manufacturer Part Number: N/A; Supplier 2 URL: N/A; Value: 33 uF; Supplier 1: Mouser; Supplier 1 Part Number: 710-865080543008; Supplier 2: Digi-Key; Supplier 2 Part Number: N/A; Supplier 3: thegioiic; Supplier 3 Part Number: N/A; ComponentLink1Description: Datasheet; ComponentLink1URL: https://www.we-online.com/redexpert/spec/865080543008?ad; LCSC Part #: N/A
footprint WCAP-ASLI_D6.3H5.5
pins: 1 P, 2 N
text: +

## 865080543009
designator C?, comment 47 uF, 35 VDC
V-Chip, D6.3 x H5.5mm, 47uF, 35V; Manufacturer: Wurth Elektronik; Capacitance Tolerance: +/-20%; Dissipation Factor: 14%; Endurance: 2000h; Leakage Current: 16.45uA; Rated Voltage (DC): 35 VDC; Ripple Current: 240mA; Category: Aluminum Electrolytic Capacitors; Mount: Surface Mount; Operating Temperature Max: 105°C; Operating Temperature Min: -55°C; Packaging: Tape and Reel; Height: 5.5mm; Diameter: 6.3mm; Capacitance: 47 uF; Supplier 3 URL: https://www.thegioiic.com/tu-nhom-smd-47uf-35v-6-3x5-4mm; Supplier 1 URL: https://www.mouser.com/ProductDetail/Wurth-Elektronik/865080543009?qs=0KOYDY2FL2%2F%252BYmhMLtEhDQ%3D%3D; Manufacturer Part Number: N/A; Supplier 2 URL: N/A; Value: 47 uF; Supplier 1: Mouser; Supplier 1 Part Number: 710-865080543009; Supplier 2: Digi-Key; Supplier 2 Part Number: N/A; Supplier 3: thegioiic; Supplier 3 Part Number: N/A; ComponentLink1Description: Datasheet; ComponentLink1URL: https://www.we-online.com/redexpert/spec/865080543009?ad; LCSC Part #: N/A
footprint WCAP-ASLI_D6.3H5.5
pins: 1 P, 2 N
text: +

## 865080553014
designator C?, comment 220 uF, 35 VDC
V-Chip, D8 x H10.5mm, 220uF, 35V; Manufacturer: Wurth Elektronik; Capacitance Tolerance: +/-20%; Dissipation Factor: 14%; Endurance: 2000h; Leakage Current: 77uA; Rated Voltage (DC): 35 VDC; Ripple Current: 570mA; Category: Aluminum Electrolytic Capacitors; Mount: Surface Mount; Operating Temperature Max: 105°C; Operating Temperature Min: -55°C; Packaging: Tape and Reel; Height: 10.5mm; Diameter: 8mm; Capacitance: 220 uF; Supplier 1 URL: https://www.mouser.com/ProductDetail/Wurth-Elektronik/865080553014?qs=0KOYDY2FL28pPfJzYTQdnQ%3D%3D; Manufacturer Part Number: N/A; Supplier 2 URL: N/A; Supplier 3 URL: N/A; Value: 220 uF; Supplier 1: Mouser; Supplier 1 Part Number: 710-865080553014; Supplier 2: Digi-Key; Supplier 2 Part Number: N/A; Supplier 3: thegioiic; Supplier 3 Part Number: N/A; ComponentLink1Description: Datasheet; ComponentLink1URL: https://www.we-online.com/redexpert/spec/865080553014?ad; LCSC Part #: N/A
footprint WCAP-ASLI_D8H10.5
pins: 1 P, 2 N
text: +

## 865080557015
designator C?, comment 330 uF, 35 VDC
V-Chip, D10 x H10.5mm, 330uF, 35V; Manufacturer: Wurth Elektronik; Capacitance Tolerance: +/-20%; Dissipation Factor: 14%; Endurance: 2000h; Leakage Current: 115.5uA; Rated Voltage (DC): 35 VDC; Ripple Current: 650mA; Category: Aluminum Electrolytic Capacitors; Mount: Surface Mount; Operating Temperature Max: 105°C; Operating Temperature Min: -55°C; Packaging: Tape and Reel; Height: 10.5mm; Diameter: 10mm; Capacitance: 330 uF; Supplier 3 URL: https://www.thegioiic.com/tu-nhom-smd-330uf-35v-10x10-5mm; Supplier 1 URL: https://www.mouser.com/ProductDetail/Wurth-Elektronik/865080557015?qs=0KOYDY2FL29uKDjS3YVvFg%3D%3D; Manufacturer Part Number: N/A; Supplier 2 URL: N/A; Value: 330 uF; Supplier 1: Mouser; Supplier 1 Part Number: 710-865080557015; Supplier 2: Digi-Key; Supplier 2 Part Number: N/A; Supplier 3: thegioiic; Supplier 3 Part Number: N/A; ComponentLink1Description: Datasheet; ComponentLink1URL: https://www.we-online.com/redexpert/spec/865080557015?ad; LCSC Part #: N/A
footprint WCAP-ASLI_D10H10.5
pins: 1 P, 2 N
text: +

## 865080562017
designator C?, comment 680 uF, 35 VDC
V-Chip, D12.5 x H14mm, 680uF, 35V; Manufacturer: Wurth Elektronik; Capacitance Tolerance: +/-20%; Dissipation Factor: 14%; Endurance: 5000h; Leakage Current: 238uA; Rated Voltage (DC): 35 VDC; Ripple Current: 1100mA; Category: Aluminum Electrolytic Capacitors; Mount: Surface Mount; Operating Temperature Max: 105°C; Operating Temperature Min: -55°C; Packaging: Tape and Reel; Height: 14mm; Diameter: 12.5mm; Capacitance: 680 uF; Supplier 3 URL: https://www.thegioiic.com/tu-nhom-smd-680uf-35v-12-5x13-5mm; Supplier 1 URL: https://www.mouser.com/ProductDetail/Wurth-Elektronik/865080562017?qs=0KOYDY2FL2%2FgZmq%2FuzCYbQ%3D%3D; Manufacturer Part Number: N/A; Supplier 2 URL: N/A; Value: 680 uF; Supplier 1: Mouser; Supplier 1 Part Number: 710-865080562017; Supplier 2: Digi-Key; Supplier 2 Part Number: N/A; Supplier 3: thegioiic; Supplier 3 Part Number: N/A; ComponentLink1Description: Datasheet; ComponentLink1URL: https://www.we-online.com/redexpert/spec/865080562017?ad; LCSC Part #: N/A
footprint WCAP-ASLI_D12.5H14
pins: 1 P, 2 N
text: +

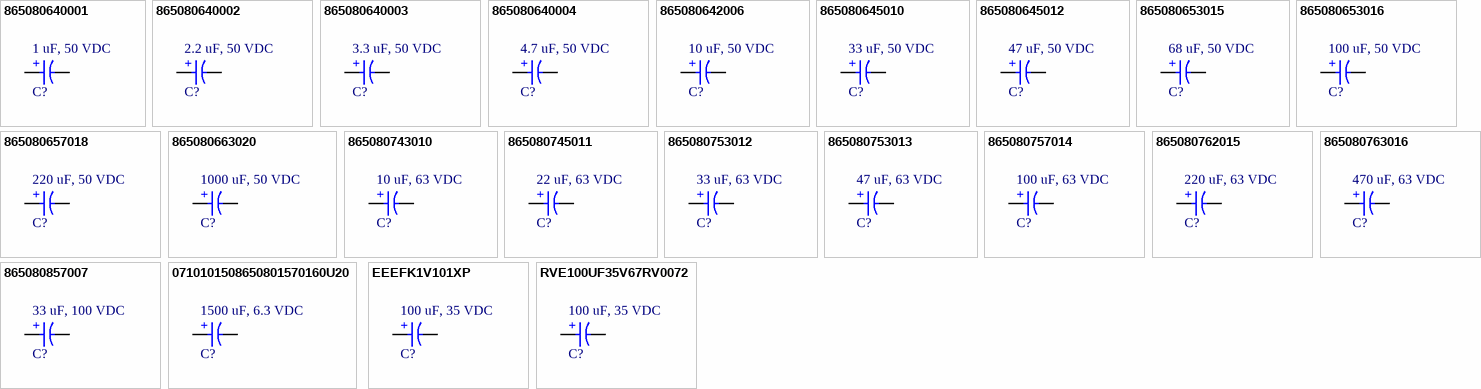
[diagram p1: symbols 865080640001 to RVE100UF35V67RV0072]

## 865080640001
designator C?, comment 1 uF, 50 VDC
V-Chip, D4 x H5.5mm, 1uF, 50V; Manufacturer: Wurth Elektronik; Capacitance Tolerance: +/-20%; Dissipation Factor: 12%; Endurance: 2000h; Leakage Current: 3uA; Rated Voltage (DC): 50 VDC; Ripple Current: 55mA; Category: Aluminum Electrolytic Capacitors; Mount: Surface Mount; Operating Temperature Max: 105°C; Operating Temperature Min: -55°C; Packaging: Tape and Reel; Height: 5.5mm; Diameter: 4mm; Capacitance: 1 uF; Supplier 3 URL: https://www.thegioiic.com/tu-nhom-smd-1uf-50v-4x5-4mm; Supplier 1 URL: https://www.mouser.com/ProductDetail/Wurth-Elektronik/865080640001?qs=0KOYDY2FL28T3O9R7owGdg%3D%3D; Manufacturer Part Number: N/A; Supplier 2 URL: N/A; Value: 1 uF; Supplier 1: Mouser; Supplier 1 Part Number: 710-865080640001; Supplier 2: Digi-Key; Supplier 2 Part Number: N/A; Supplier 3: thegioiic; Supplier 3 Part Number: N/A; ComponentLink1Description: Datasheet; ComponentLink1URL: https://www.we-online.com/redexpert/spec/865080640001?ad; LCSC Part #: N/A
footprint WCAP-ASLI_D4H5.5
pins: 1 P, 2 N
text: +

## 865080640002
designator C?, comment 2.2 uF, 50 VDC
V-Chip, D4 x H5.5mm, 2.2uF, 50V; Manufacturer: Wurth Elektronik; Capacitance Tolerance: +/-20%; Dissipation Factor: 12%; Endurance: 2000h; Leakage Current: 3uA; Rated Voltage (DC): 50 VDC; Ripple Current: 55mA; Category: Aluminum Electrolytic Capacitors; Mount: Surface Mount; Operating Temperature Max: 105°C; Operating Temperature Min: -55°C; Packaging: Tape and Reel; Height: 5.5mm; Diameter: 4mm; Capacitance: 2.2 uF; Supplier 1 URL: https://www.mouser.vn/ProductDetail/Wurth-Elektronik/865080640002?qs=0KOYDY2FL28hjbiu3r0WKw%3D%3D&_gl=1*nrsjv3*_ga*MTU3MDk5Mzg4NC4xNjkwOTM0ODIy*_ga_1KQLCYKRX3*MTY5MDkzNDgyMS4xLjAuMTY5MDkzNDgyMi41OS4wLjA.*_ga_15W4STQT4T*MTY5MDkzNDgyMS4xLjAuMTY5MDkzNDgyMi4wLjAuMA..; Supplier 3 URL: https://www.thegioiic.com/tu-nhom-smd-2-2uf-50v-4x5-4mm; Manufacturer Part Number: N/A; Supplier 2 URL: N/A; Value: 2.2 uF; Supplier 1: Mouser; Supplier 1 Part Number: 710-865080640002; Supplier 2: Digi-Key; Supplier 2 Part Number: N/A; Supplier 3: thegioiic; Supplier 3 Part Number: N/A; ComponentLink1Description: Datasheet; ComponentLink1URL: https://www.we-online.com/redexpert/spec/865080640002?ad; LCSC Part #: N/A
footprint WCAP-ASLI_D4H5.5
pins: 1 P, 2 N
text: +

## 865080640003
designator C?, comment 3.3 uF, 50 VDC
V-Chip, D4 x H5.5mm, 3.3uF, 50V; Manufacturer: Wurth Elektronik; Capacitance Tolerance: +/-20%; Dissipation Factor: 12%; Endurance: 2000h; Leakage Current: 3uA; Rated Voltage (DC): 50 VDC; Ripple Current: 55mA; Category: Aluminum Electrolytic Capacitors; Mount: Surface Mount; Operating Temperature Max: 105°C; Operating Temperature Min: -55°C; Packaging: Tape and Reel; Height: 5.5mm; Diameter: 4mm; Capacitance: 3.3 uF; Supplier 1 URL: https://www.mouser.vn/ProductDetail/Wurth-Elektronik/865080640003?qs=0KOYDY2FL28Odv5nxKeW%252BQ%3D%3D; Supplier 3 URL: https://www.thegioiic.com/tu-nhom-smd-3-3uf-50v-4x5-4mm; Manufacturer Part Number: N/A; Supplier 2 URL: N/A; Value: 3.3 uF; Supplier 1: Mouser; Supplier 1 Part Number: 710-865080640003; Supplier 2: Digi-Key; Supplier 2 Part Number: N/A; Supplier 3: thegioiic; Supplier 3 Part Number: N/A; ComponentLink1Description: Datasheet; ComponentLink1URL: https://www.we-online.com/redexpert/spec/865080640003?ad; LCSC Part #: N/A
footprint WCAP-ASLI_D4H5.5
pins: 1 P, 2 N
text: +

## 865080640004
designator C?, comment 4.7 uF, 50 VDC
V-Chip, D4 x H5.5mm, 4.7uF, 50V; Manufacturer: Wurth Elektronik; Capacitance Tolerance: +/-20%; Dissipation Factor: 12%; Endurance: 2000h; Leakage Current: 3uA; Rated Voltage (DC): 50 VDC; Ripple Current: 55mA; Category: Aluminum Electrolytic Capacitors; Mount: Surface Mount; Operating Temperature Max: 105°C; Operating Temperature Min: -55°C; Packaging: Tape and Reel; Height: 5.5mm; Diameter: 4mm; Capacitance: 4.7 uF; Supplier 1 URL: https://www.mouser.vn/ProductDetail/Wurth-Elektronik/865080640004?qs=0KOYDY2FL2%2FjY4kqBxIvAg%3D%3D; Supplier 3 URL: https://www.thegioiic.com/product/tu-hoa-nhom?prid=6714,5972; Manufacturer Part Number: N/A; Supplier 2 URL: N/A; Value: 4.7 uF; Supplier 1: Mouser; Supplier 1 Part Number: 710-865080640004; Supplier 2: Digi-Key; Supplier 2 Part Number: N/A; Supplier 3: thegioiic; Supplier 3 Part Number: N/A; ComponentLink1Description: Datasheet; ComponentLink1URL: https://www.we-online.com/redexpert/spec/865080640004?ad; LCSC Part #: N/A
footprint WCAP-ASLI_D4H5.5
pins: 1 P, 2 N
text: +

## 865080642006
designator C?, comment 10 uF, 50 VDC
V-Chip, D5 x H5.5mm, 10uF, 50V; Manufacturer: Wurth Elektronik; Capacitance Tolerance: +/-20%; Dissipation Factor: 12%; Endurance: 2000h; Leakage Current: 5uA; Rated Voltage (DC): 50 VDC; Ripple Current: 95mA; Category: Aluminum Electrolytic Capacitors; Mount: Surface Mount; Operating Temperature Max: 105°C; Operating Temperature Min: -55°C; Packaging: Tape and Reel; Height: 5.5mm; Diameter: 5mm; Capacitance: 10 uF; Supplier 1 URL: https://www.mouser.vn/ProductDetail/Wurth-Elektronik/865080653016?qs=0KOYDY2FL2%2FUDYNkMs7i0Q%3D%3D; Supplier 3 URL: https://www.thegioiic.com/tu-nhom-smd-10uf-50v-5x5-4mm; Manufacturer Part Number: N/A; Supplier 2 URL: N/A; Value: 10 uF; Supplier 1: Mouser; Supplier 1 Part Number: 710-865080653016; Supplier 2: Digi-Key; Supplier 2 Part Number: N/A; Supplier 3: thegioiic; Supplier 3 Part Number: N/A; ComponentLink1Description: Datasheet; ComponentLink1URL: https://www.we-online.com/redexpert/spec/865080642006?ad; LCSC Part #: N/A
footprint WCAP-ASLI_D5H5.5
pins: 1 P, 2 N
text: +